# Altium schematic symbol library bingo.SchLib: 20 symbols
Pins are listed as number, name and electrical type; pins without a type are passive.

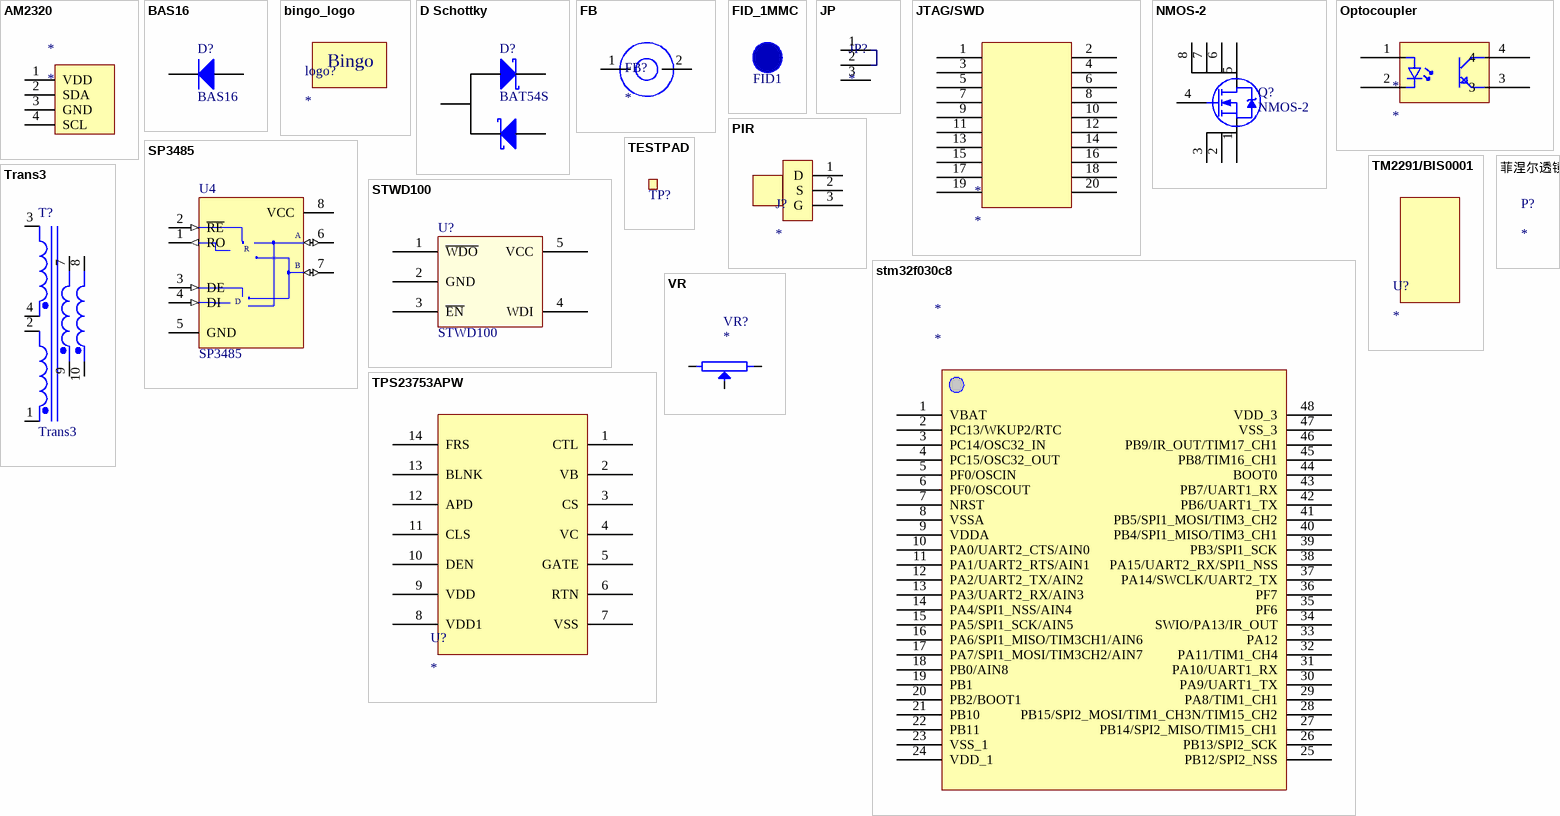
[diagram p0: symbols AM2320 to 菲涅尔透镜]

## AM2320
designator *
footprint Header_3
pins: 1 VDD, 2 SDA, 3 GND, 4 SCL

## BAS16
designator D?
Default Diode; Published: 8-Jun-2000; LatestRevisionDate: 17-Jul-2002; LatestRevisionNote: Re-released for DXP Platform.; PackageVersion: Sep-1996; PackageReference: SMC; Publisher: Altium Limited; PackageDescription: DO-214-AB/SMC; 2 C-Bend Leads; Body 7.9 x 5.9 mm, inc. leads (LxW); Code_JEDEC: DO-214-AB
footprint SOT-23
simulation model DIODE (Diode)
signal-integrity model Diode
pins: 1 A, 3 K

## bingo_logo
designator logo?
bingo logo
footprint bingo_logo
text: Bingo

## D Schottky
designator D?, comment BAT54S
Diode, Dual Schottky, 200mA, 30V; Published: 8-Jun-2000; LatestRevisionDate: 17-Jul-2002; LatestRevisionNote: Re-released for DXP Platform.; PackageReference: SMB; Publisher: Altium Limited; PackageDescription: DO-214-AA/SMB; 2 C-Bend Leads; Body 5.3 x 3.6 mm, inc. leads (LxW); Code_JEDEC: DO-214-AA
footprint SMB (DO-214-AA/SMB; 2 C-Bend Leads; Body 5.3 x 3.6 mm, inc. leads (LxW))
simulation model SKYDIODE (Diode)
signal-integrity model D Schottky
pins: 1, 2, 3

## FB
designator FB?
pins: 1, 2

## FID_1MMC
designator FID1  (value not drawn)  (no BOM)
Fiducial 40mil Diameter, 120mil Mask; Supplier: Digikey
footprint FID_40X120D

## JP
designator JP?
pins: 1, 2, 3

## JTAG/SWD
designator *
pins: 1, 2, 3, 4, 5, 6, 7, 8, 9, 10, 11, 12, 13, 14, 15, 16, 17, 18, 19, 20

## NMOS-2
designator Q?
N-Channel Power MOSFET; Note: Pin 2 is electrically connected to pin 4.; Published: 8-Jun-2000; LatestRevisionDate: 17-Jul-2002; LatestRevisionNote: Re-released for DXP Platform.; DatasheetVersion: PD-9.814; PackageVersion: Feb-1997; PackageReference: TO-220AB; Publisher: Altium Limited; PackageDescription: TO, Thru-Hole, Vertical, Heatsink Mounted; 3 In-Line Leads; Pitch 2.54 mm; ComponentLink1Description: Manufacturer Link; ComponentLink1URL: http://www.irf.com/
footprint TO-220AB (TO, Thru-Hole, Vertical, Heatsink Mounted; 3 In-Line Leads; Pitch 2.54 mm)
simulation model IRF1010 (Spice Subcircuit)
pins: 1 S, 2 9, 3 10, 4 G, 5 D, 6, 7, 8

## Optocoupler
designator *
pins: 1, 2, 3, 4

## PIR
designator J?
pins: 1 D, 2 S, 3 G

## SP3485
designator U4
footprint NSO8_M
pins: 1 RO (out), 2 ~{RE} (in), 3 DE (in), 4 DI (in), 5 GND (power), 6 A (io), 7 B (io), 8 VCC (power)
2 alternate drawings of the same symbol
text: R; D

## stm32f030c8
designator *
pins: 1 VBAT, 2 PC13/WKUP2/RTC, 3 PC14/OSC32_IN, 4 PC15/OSC32_OUT, 5 PF0/OSCIN, 6 PF0/OSCOUT, 7 NRST, 8 VSSA, 9 VDDA, 10 PA0/UART2_CTS/AIN0, 11 PA1/UART2_RTS/AIN1, 12 PA2/UART2_TX/AIN2, 13 PA3/UART2_RX/AIN3, 14 PA4/SPI1_NSS/AIN4, 15 PA5/SPI1_SCK/AIN5, 16 PA6/SPI1_MISO/TIM3CH1/AIN6, 17 PA7/SPI1_MOSI/TIM3CH2/AIN7, 18 PB0/AIN8, 19 PB1, 20 PB2/BOOT1, 21 PB10, 22 PB11, 23 VSS_1, 24 VDD_1, 25 PB12/SPI2_NSS, 26 PB13/SPI2_SCK, 27 PB14/SPI2_MISO/TIM15_CH1, 28 PB15/SPI2_MOSI/TIM1_CH3N/TIM15_CH2, 29 PA8/TIM1_CH1, 30 PA9/UART1_TX, 31 PA10/UART1_RX, 32 PA11/TIM1_CH4, 33 PA12, 34 SWIO/PA13/IR_OUT, 35 PF6, 36 PF7, 37 PA14/SWCLK/UART2_TX, 38 PA15/UART2_RX/SPI1_NSS, 39 PB3/SPI1_SCK, 40 PB4/SPI1_MISO/TIM3_CH1, 41 PB5/SPI1_MOSI/TIM3_CH2, 42 PB6/UART1_TX, 43 PB7/UART1_RX, 44 BOOT0, 45 PB8/TIM16_CH1, 46 PB9/IR_OUT/TIM17_CH1, 47 VSS_3, 48 VDD_3

## STWD100
designator U?
LDO_APL5151; PCB DECAL: *; Source_Path: *; Value: *
footprint SOT23-5
pins: 1 ~{WDO}, 2 GND, 3 ~{EN}, 4 WDI, 5 VCC
2 alternate drawings of the same symbol

## TESTPAD
designator TP?, comment ?.0mm,SMD  (value not drawn)  (no BOM)
1.0mm circular SMD testpad; Part Number: TP_SMD_?.0MM; Manufacturer: Nordic Semiconductor; Artikkelnr Noca: N.A.; Manufacturer Part Number: *; Datasheet: *; LatestRevisionDate: 2013-06-11; Pin Count: 1; Publisher: Nordic Semiconductor; Published: 2013-06-11; Value: ?.0mm,SMD; Note: *; Supplier: *; Supplier part number: *; 2nd source Supplier: *; 2nd source part number: *; Footprint Doc: TP_SMD_?.0mm; Artikkelnr Simpro: N.A.
footprint TP_SMD_1mm
pins: 1

## TM2291/BIS0001
designator U?
1 alternate drawing of the same symbol

## TPS23753APW
designator U?
pins: 1 CTL, 2 VB, 3 CS, 4 VC, 5 GATE, 6 RTN, 7 VSS, 8 VDD1, 9 VDD, 10 DEN, 11 CLS, 12 APD, 13 BLNK, 14 FRS

## Trans3
designator T?
Three-winding Transformer (Non-Ideal); Sim Note: Enter the turns ratios, Core loss resistance, Magnetising Reactance, Leakage Reactances and Resistances referred to the primary side into the parameter fields.; Published: 25-Jan-2001; LatestRevisionDate: 17-Jul-2002; LatestRevisionNote: Re-released for DXP Platform.; PackageReference: TRF_6; Publisher: Altium Limited; PackageDescription: Transformer; 6 Leads
footprint TRF_6 (Transformer; 6 Leads)
simulation model NI3WTRANS (Spice Subcircuit)
pins: 1 Sec1+, 2 Sec1-, 3 Sec2-, 4 Sec2+, 7 Pri-, 8 Pri-, 9 Pri+, 10 Pri+

## VR
designator VR?
Potentiometer
footprint 3266
pins: 1, 2, 3

## 菲涅尔透镜
designator P?
菲涅尔透镜
footprint Fresnel lens (菲涅尔透镜(透镜的中心要和红外传感器的中心对准))